# Altium schematic symbol library G02 Library.SchLib: 5 symbols
Pins are listed as number, name and electrical type; pins without a type are passive.

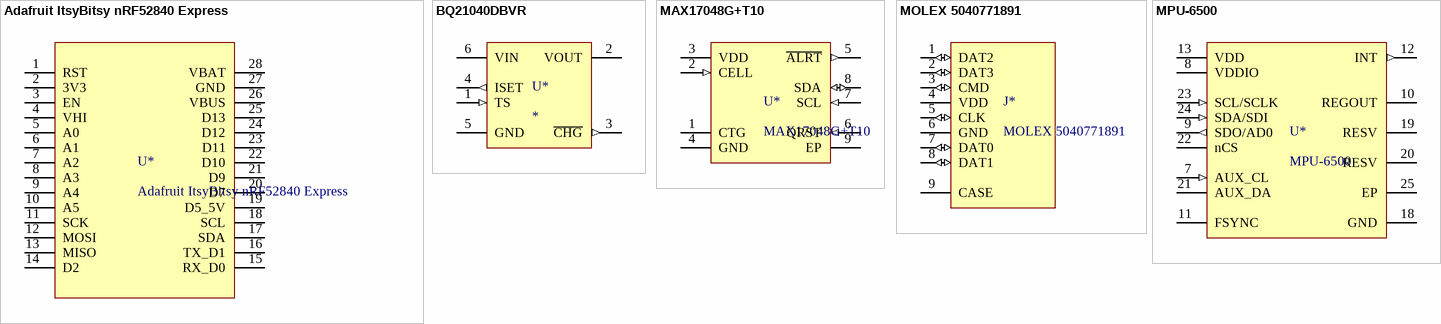
[diagram p0: symbols Adafruit ItsyBitsy nRF52840 Express to MPU-6500]

## Adafruit ItsyBitsy nRF52840 Express
designator U*
footprint Adafruit ItsyBitsy nRF52840 Express
pins: 1 RST, 2 3V3, 3 EN, 4 VHI, 5 A0, 6 A1, 7 A2, 8 A3, 9 A4, 10 A5, 11 SCK, 12 MOSI, 13 MISO, 14 D2, 15 RX_D0, 16 TX_D1, 17 SDA, 18 SCL, 19 D5_5V, 20 D7, 21 D9, 22 D10, 23 D11, 24 D12, 25 D13, 26 VBUS, 27 GND, 28 VBAT

## BQ21040DBVR
designator U*
Digikey PN: 296-47315-1-ND
footprint BQ21040DBVR
pins: 1 TS (in), 2 VOUT (power), 3 ~{CHG} (out), 4 ISET (out), 5 GND (power), 6 VIN (power)

## MAX17048G+T10
designator U*
Digikey PN: MAX17048G+T10CT-ND
footprint MAX17048G+T10
pins: 1 CTG (power), 2 CELL (in), 3 VDD (power), 4 GND (power), 5 ~{ALRT} (out), 6 QRST (in), 7 SCL (in), 8 SDA (io), 9 EP (power)

## MOLEX 5040771891
designator J*
footprint MOLEX 5040771891
pins: 1 DAT2 (io), 2 DAT3 (io), 3 CMD (io), 4 VDD (power), 5 CLK (io), 6 GND (power), 7 DAT0 (io), 8 DAT1 (io), 9 CASE (power)

## MPU-6500
designator U*
footprint MPU-6500
pins: 1 NC hidden, 2 NC hidden, 3 NC hidden, 4 NC hidden, 5 NC hidden, 6 NC hidden, 7 AUX_CL (in), 8 VDDIO, 9 SDO/AD0 (out), 10 REGOUT, 11 FSYNC, 12 INT (out), 13 VDD, 14 NC hidden, 15 NC hidden, 16 NC hidden, 17 NC hidden, 18 GND, 19 RESV, 20 RESV, 21 AUX_DA, 22 nCS, 23 SCL/SCLK (in), 24 SDA/SDI (in), 25 EP, ?1 NC hidden